# EAGLE library part 171020560 (library WPME-VDMM)
MagI³C-VDMM Variable Step Down MicroModule Characteristics Low conducted and radiated EMI (compliant to EN55022 class B / CISPR-22 LGA-6EP Very low profile micropackage Ideal for space constrained applications 3 solder cycles supported LGA-8EP Very low profile micropackage Ideal for space constrained applications For direct connection to 24 V industrial voltage network 3 solder cycles supported LGA-12 Very low profile micro package Ideal for space constrained applications For direct connection to 48 V industrial voltage network Spread spectrum for optimized EMI performance 2 solder cycles supported Applications Point-of-Load DC/DC applications Replacement for linear regulators Interface and microcontroller supply DSP and FPGA power supply auxiliary voltages Portable instruments Battery powered equipment Sensors <https://www.we-online.com/components/media/o109063v209%20VDMM_Group.jpg> Details see: www.we-online.com/en/components/products/MAGIC-VDMM <www.we-online.com/catalog/MAGIC-VDMM/?utm_source=eagle_model&utm_medium=description_link&utm_campaign=eisos_eagle> Created By Ella Wu 2025-08-01 2025 (C) Würth Elektronik
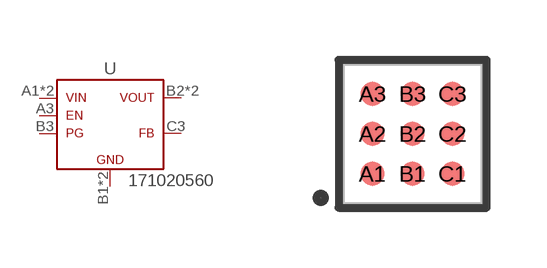
[diagram p3: symbol with the pads of WPME-VDMM_LGA-9_L3.5W3.5H1.5; footprint WPME-VDMM_LGA-9_L3.5W3.5H1.5]

Designator prefix U

## 171020560 (DATASHEET-URL: https://www.we-online.com/redexpert/spec/171020560?ae; HEIGHT: 1.5mm; I-OUTPUT: 2A; LENGTH: 3.5mm; MOUNT: SMT; PART-NUMBER: 171020560; SIZE: LGA-9; TYPE: Overmolded; V-INPUT: 2.5 - 5.5V; V-OUTPUT: 0.6 - 4V; VALUE: 2.5 - 5.5V, 0.6 - 4V, 2A; VERSION: Power Good; WIDTH: 3.5mm)  [WPME-VDMM_LGA-9_L3.5W3.5H1.5]
A1  VIN  pwr
A2  VIN  pwr
A3  EN  in
B1  GND  pwr
B2  VOUT  pwr
B3  PG  out
C1  GND  pwr
C2  VOUT  pwr
C3  FB  in

## Footprint WPME-VDMM_LGA-9_L3.5W3.5H1.5 (pad centres in mm)
MagI³C-VDMM Variable Step Down MicroModule Size: LGA-9, SMT, 9pins LXWXH=3.5X3.5X1.5mm
smd 0.6 x 0.6: A1 -1,-1; A2 -1,0; A3 -1,1; B1 0,-1; B2 0,0; B3 0,1; C1 1,-1; C2 1,0; C3 1,1